# Altium schematic symbol library Button.SchLib: 26 symbols
Pins are listed as number, name and electrical type; pins without a type are passive.

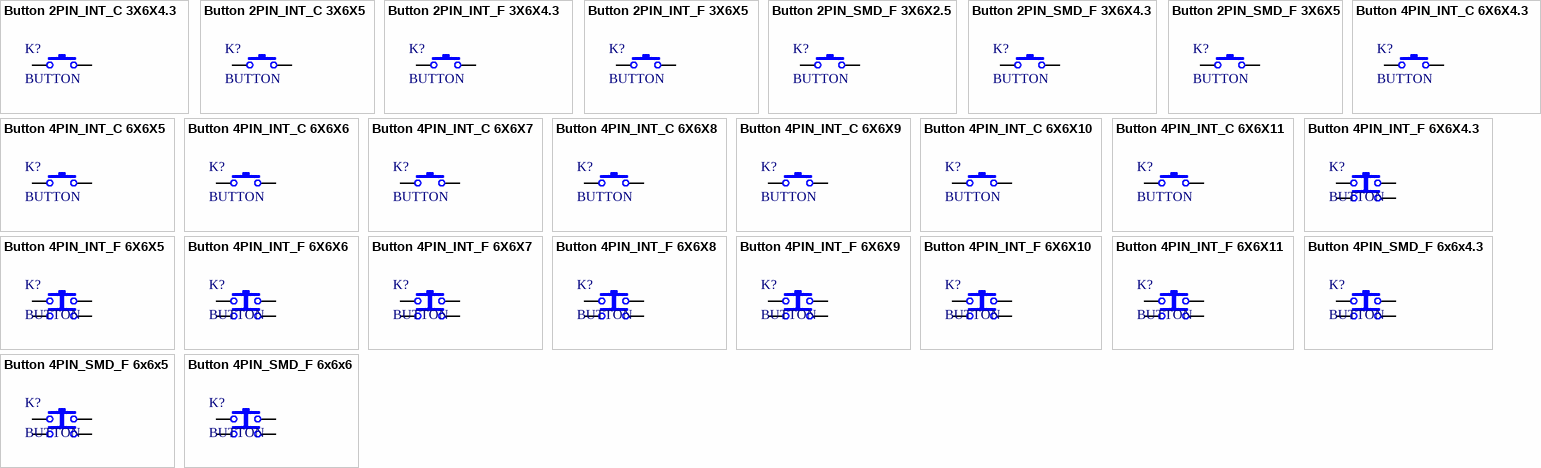
[diagram p0: symbols Button 2PIN_INT_C 3X6X4.3 to Button 4PIN_SMD_F 6x6x6]

## Button 2PIN_INT_C 3X6X4.3
designator K?, comment BUTTON
贴片按键
footprint KEY DIP3X6X4.3_C
pins: 1, 3

## Button 2PIN_INT_C 3X6X5
designator K?, comment BUTTON
贴片按键
footprint KEY DIP3X6X5_C
pins: 1, 3

## Button 2PIN_INT_F 3X6X4.3
designator K?, comment BUTTON
贴片按键
footprint KEY DIP3X6X4.3
pins: 1, 3

## Button 2PIN_INT_F 3X6X5
designator K?, comment BUTTON
贴片按键
footprint KEY DIP3X6X5
pins: 1, 3

## Button 2PIN_SMD_F 3X6X2.5
designator K?, comment BUTTON
贴片按键
footprint KEY SMD3X6X2.5
pins: 1, 3

## Button 2PIN_SMD_F 3X6X4.3
designator K?, comment BUTTON
贴片按键
footprint KEY SMD3X6X4.3
pins: 1, 3

## Button 2PIN_SMD_F 3X6X5
designator K?, comment BUTTON
贴片按键
footprint KEY SMD3X6X5
pins: 1, 3

## Button 4PIN_INT_C 6X6X4.3
designator K?, comment BUTTON
直插按键
footprint KEY DIP6X6X4.3_C
pins: 1, 3

## Button 4PIN_INT_C 6X6X5
designator K?, comment BUTTON
直插按键
footprint KEY DIP6X6X5_C
pins: 1, 3

## Button 4PIN_INT_C 6X6X6
designator K?, comment BUTTON
直插按键
footprint KEY DIP6X6X6_C
pins: 1, 3

## Button 4PIN_INT_C 6X6X7
designator K?, comment BUTTON
直插按键
footprint KEY DIP6X6X7_C
pins: 1, 3

## Button 4PIN_INT_C 6X6X8
designator K?, comment BUTTON
直插按键
footprint KEY DIP6X6X8_C
pins: 1, 3

## Button 4PIN_INT_C 6X6X9
designator K?, comment BUTTON
直插按键
footprint KEY DIP6X6X9_C
pins: 1, 3

## Button 4PIN_INT_C 6X6X10
designator K?, comment BUTTON
直插按键
footprint KEY DIP6X6X10_C
pins: 1, 3

## Button 4PIN_INT_C 6X6X11
designator K?, comment BUTTON
直插按键
footprint KEY DIP6X6X11_C
pins: 1, 3

## Button 4PIN_INT_F 6X6X4.3
designator K?, comment BUTTON
直插按键
footprint KEY DIP6X6X4.3
pins: 1, 2, 3, 4

## Button 4PIN_INT_F 6X6X5
designator K?, comment BUTTON
直插按键
footprint KEY DIP6X6X5
pins: 1, 2, 3, 4

## Button 4PIN_INT_F 6X6X6
designator K?, comment BUTTON
直插按键
footprint KEY DIP6X6X6
pins: 1, 2, 3, 4

## Button 4PIN_INT_F 6X6X7
designator K?, comment BUTTON
直插按键
footprint KEY DIP6X6X7
pins: 1, 2, 3, 4

## Button 4PIN_INT_F 6X6X8
designator K?, comment BUTTON
直插按键
footprint KEY DIP6X6X8
pins: 1, 2, 3, 4

## Button 4PIN_INT_F 6X6X9
designator K?, comment BUTTON
直插按键
footprint KEY DIP6X6X9
pins: 1, 2, 3, 4

## Button 4PIN_INT_F 6X6X10
designator K?, comment BUTTON
直插按键
footprint KEY DIP6X6X10
pins: 1, 2, 3, 4

## Button 4PIN_INT_F 6X6X11
designator K?, comment BUTTON
直插按键
footprint KEY DIP6X6X11
pins: 1, 2, 3, 4

## Button 4PIN_SMD_F 6x6x4.3
designator K?, comment BUTTON
贴片按键
footprint KEY SMD6X6X4.3
pins: 1, 2, 3, 4

## Button 4PIN_SMD_F 6x6x5
designator K?, comment BUTTON
贴片按键
footprint KEY SMD6X6X5
pins: 1, 2, 3, 4

## Button 4PIN_SMD_F 6x6x6
designator K?, comment BUTTON
贴片按键
footprint KEY SMD6X6X6
pins: 1, 2, 3, 4